# EAGLE library part NRF24L01 (library RF)
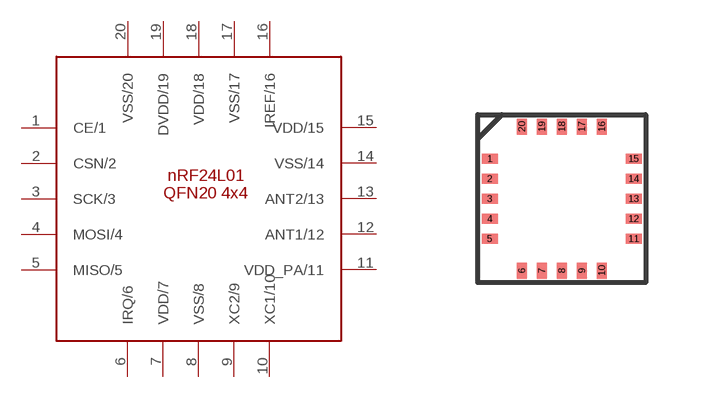
[diagram p0: symbol with the pads of QFN20(4X4); footprint QFN20(4X4)]

Designator prefix U

## NRF24L01  [QFN20(4X4)]
1  CE/1
2  CSN/2
3  SCK/3
4  MOSI/4
5  MISO/5
6  IRQ/6
7  VDD/7
8  VSS/8
9  XC2/9
10  XC1/10
11  VDD_PA/11
12  ANT1/12
13  ANT2/13
14  VSS/14
15  VDD/15
16  IREF/16
17  VSS/17
18  VDD/18
19  DVDD/19
20  VSS/20

## Footprint QFN20(4X4) (pad centres in mm)
smd 0.4 x 0.25: 1 -1.8,1; 2 -1.8,0.5; 3 -1.8,0; 4 -1.8,-0.5; 5 -1.8,-1; 11 1.8,-1; 12 1.8,-0.5; 13 1.8,0; 14 1.8,0.5; 15 1.8,1
smd 0.25 x 0.4: 6 -1,-1.8; 7 -0.5,-1.8; 8 0,-1.8; 9 0.5,-1.8; 10 1,-1.8; 16 1,1.8; 17 0.5,1.8; 18 0,1.8; 19 -0.5,1.8; 20 -1,1.8